# Altium footprint library IRF9530.PcbLib: 2 footprints
Each footprint in its own frame and in the unit in brackets; x right, y up, seen from the top. Pads: shape width x height; smd on the part's side, far side on the other; paste and mask are expansions set on the pad; w line width, h text height; cw(c..) or ccw(c..) is an arc to the next point about the centre after c.
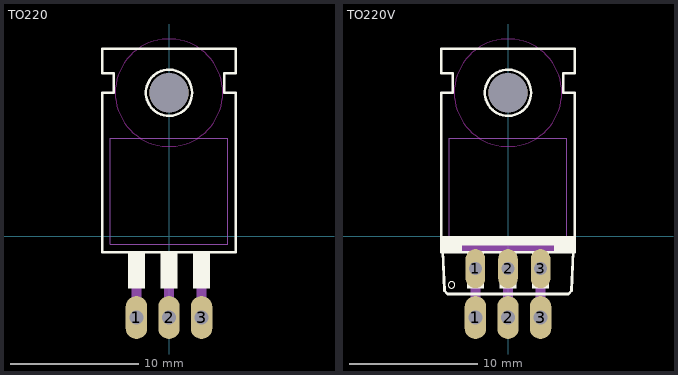
[diagram p0: the footprints below, top view; thin cyan lines are the x and y axes]

## TO220 [mil]
pads (4):
  oval 66x132 hole 44: 1(-100,-250) 2(0,-250) 3(100,-250)
  round 120 hole 120 unplated: ""(0,440)
Top Overlay:
  circle w8: c0,440 r71
  region: 125,-160 75,-160 75,-50 125,-50
  region: 25,-160 -25,-160 -25,-50 25,-50
  region: -75,-160 -125,-160 -125,-50 -75,-50
  lines w8: -205,-50 -205,440 -170,440 -170,500 -205,500 -205,575 205,575 205,500 170,500 170,440 205,440 205,-50 -205,-50
Keep-Out Layer:
  circle w0: c0,440 r165
  circle w0: c0,440 r165
Mechanical 13:
  region: 115,-260 85,-260 85,-185 115,-185
  region: 15,-260 -15,-260 -15,-185 15,-185
  region: -85,-260 -115,-260 -115,-185 -85,-185
  region: -85,-185 -115,-185 -115,-160 -85,-160
  region: 15,-185 -15,-185 -15,-160 15,-160
  region: 115,-185 85,-185 85,-160 115,-160
  lines w2: -180,-25 -180,300 180,300 180,-25 -180,-25
  text "3" at 75,0 h50
  text "2" at -25,0 h50
  text "1" at -125,0 h50

## TO220V [mil]
pads (7):
  oval 66x132 hole 44: 1(-100,-250) 2(0,-250) 3(100,-250)
  oval 60x120 hole 40: 1(-100,-100) 2(0,-100) 3(100,-100)
  round 120 hole 120 unplated: ""(0,440)
Top Overlay:
  circle w8: c0,440 r71
  circle w0: c-173.06,-149.94 r10
  region: -75,-160 -125,-160 -125,-50 -75,-50
  region: 25,-160 -25,-160 -25,-50 25,-50
  region: 125,-160 75,-160 75,-50 125,-50
  region: 208.66,-27.56 -208.66,-27.56 -208.66,0 208.66,0
  region: -141.73,-51.18 -208.66,-51.18 -208.66,-27.56 -141.73,-27.56
  region: 208.66,-51.18 141.73,-51.18 141.73,-27.56 208.66,-27.56
  lines w8: -200,-45 -195,-167.87 -185,-177.87 185,-177.87 195,-167.87 200,-45 ; -205,-50 205,-50 205,440 170,440 170,500 205,500 205,575 -205,575 -205,500 -170,500 -170,440 -205,440 -205,-50
Keep-Out Layer:
  circle w0: c0,440 r165
  circle w0: c0,440 r165
Mechanical 13:
  region: 115,-185 85,-185 85,-160 115,-160
  region: 15,-185 -15,-185 -15,-160 15,-160
  region: -85,-185 -115,-185 -115,-160 -85,-160
  region: -85,-260 -115,-260 -115,-185 -85,-185
  region: 15,-260 -15,-260 -15,-185 15,-185
  region: 115,-260 85,-260 85,-185 115,-185
  region: 141.73,-51.18 -141.73,-51.18 -141.73,-27.56 141.73,-27.56
  lines w2: -180,-25 180,-25 180,300 -180,300 -180,-25
  text "1" at -125,0 h50
  text "2" at -25,0 h50
  text "3" at 75,0 h50
  text "1" at -125,-125 h50
  text "2" at -25,-125 h50
  text "3" at 75,-125 h50